# EAGLE library part TDP04_S (library switch-dil)
DIP Switch Ultra-miniature SMD Half-pitch Side-Actuated
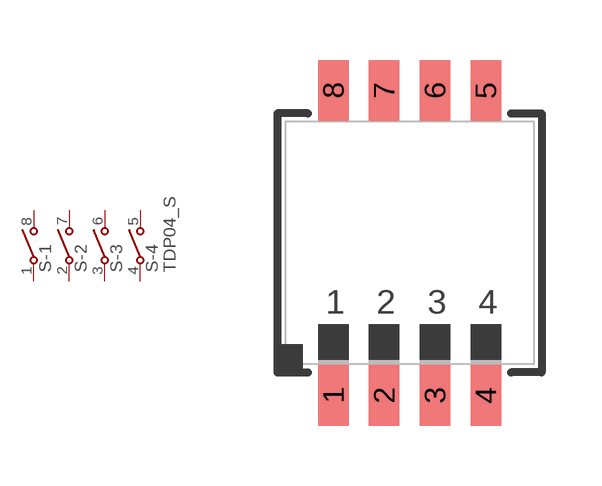
[diagram p78: symbol with the pads of TDP04; footprint TDP04]

Designator prefix S; gates -1=S -2=S -3=S -4=S+V

## TDP04_S  [TDP04]
1  -1:1  pas
2  -2:1  pas
3  -3:1  pas
4  -4:1  pas
5  -4:2  pas
6  -3:2  pas
7  -2:2  pas
8  -1:2  pas

## Footprint TDP04 (pad centres in mm)
TDP Series Ultra-miniature Surface Mount Half-pitch Side-Actuated DIP Switches
smd 0.762 x 1.524: 1 -1.905,-3.81; 2 -0.635,-3.81; 3 0.635,-3.81; 4 1.905,-3.81; 5 1.905,3.81; 6 0.635,3.81; 7 -0.635,3.81; 8 -1.905,3.81